# EAGLE library part K-HEADER-FEMALE-2X4- (library elpp-tht-v1.2)
FEMALE HEADER, 2 rows
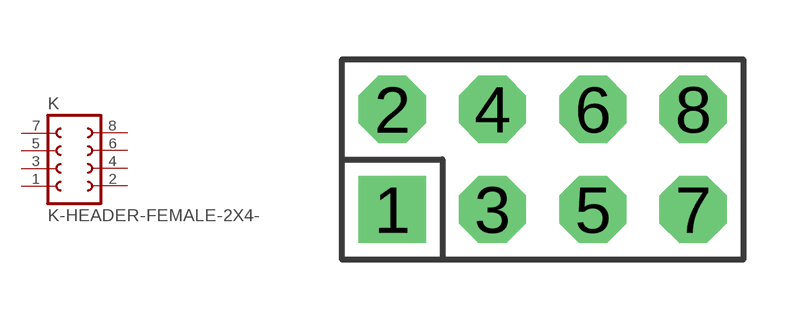
[diagram p38: symbol with the pads of ELPP-DIL-F-8-WAY-V; footprint ELPP-DIL-F-8-WAY-V]

Designator prefix K

## K-HEADER-FEMALE-2X4-V (FARNELL: 9728872; RS: unknown)  [ELPP-DIL-F-8-WAY-V]
1  1  pas
2  2  pas
3  3  pas
4  4  pas
5  5  pas
6  6  pas
7  7  pas
8  8  pas

## Footprint ELPP-DIL-F-8-WAY-V (pad centres in mm)
FEMALE HEADER
drill 1 pad 1.7 square: 1 -5.08,0
drill 1 pad 1.7 octagon: 2 -5.08,2.54; 3 -2.54,0; 4 -2.54,2.54; 5 0,0; 6 0,2.54; 7 2.54,0; 8 2.54,2.54